# Altium schematic symbol library 74LVC2G00DC-Q100H.Schlib: 1 symbol
Pins are listed as number, name and electrical type; pins without a type are passive.

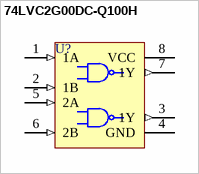
[diagram p0: symbol 74LVC2G00DC-Q100H]

## 74LVC2G00DC-Q100H
designator U?
Single 2-Input Positive AND Gate
pins: 1 1A (in), 2 1B (in), 3 1Y (out), 4 GND (power), 5 2A (in), 6 2B (in), 7 1Y (out), 8 VCC (power)